# Altium integrated library MAX14933ASE_T.IntLib: 1 symbol
Pins are listed as number, name and electrical type; pins without a type are passive.

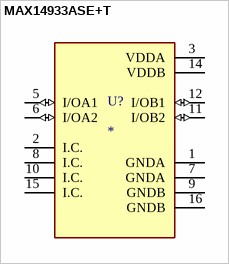
[diagram p0: symbol MAX14933ASE+T]

## MAX14933ASE+T
designator U?
MP: MAX14933ASE+T; Package: None; Price: None; Value: *; Availability: Unavailable
footprint SOIC127P600X175-16N
pins: 1 GNDA (power), 2 I.C., 3 VDDA (power), 5 I/OA1 (io), 6 I/OA2 (io), 7 GNDA (power), 8 I.C., 9 GNDB (power), 10 I.C., 11 I/OB2 (io), 12 I/OB1 (io), 14 VDDB (power), 15 I.C., 16 GNDB (power)